# Altium footprint library Passives-SMD_LED.PCBLIB: 29 footprints (part 2 of 2)
Each footprint in its own frame and in the unit in brackets; x right, y up, seen from the top. Pads: shape width x height; smd on the part's side, far side on the other; paste and mask are expansions set on the pad; w line width, h text height; cw(c..) or ccw(c..) is an arc to the next point about the centre after c.
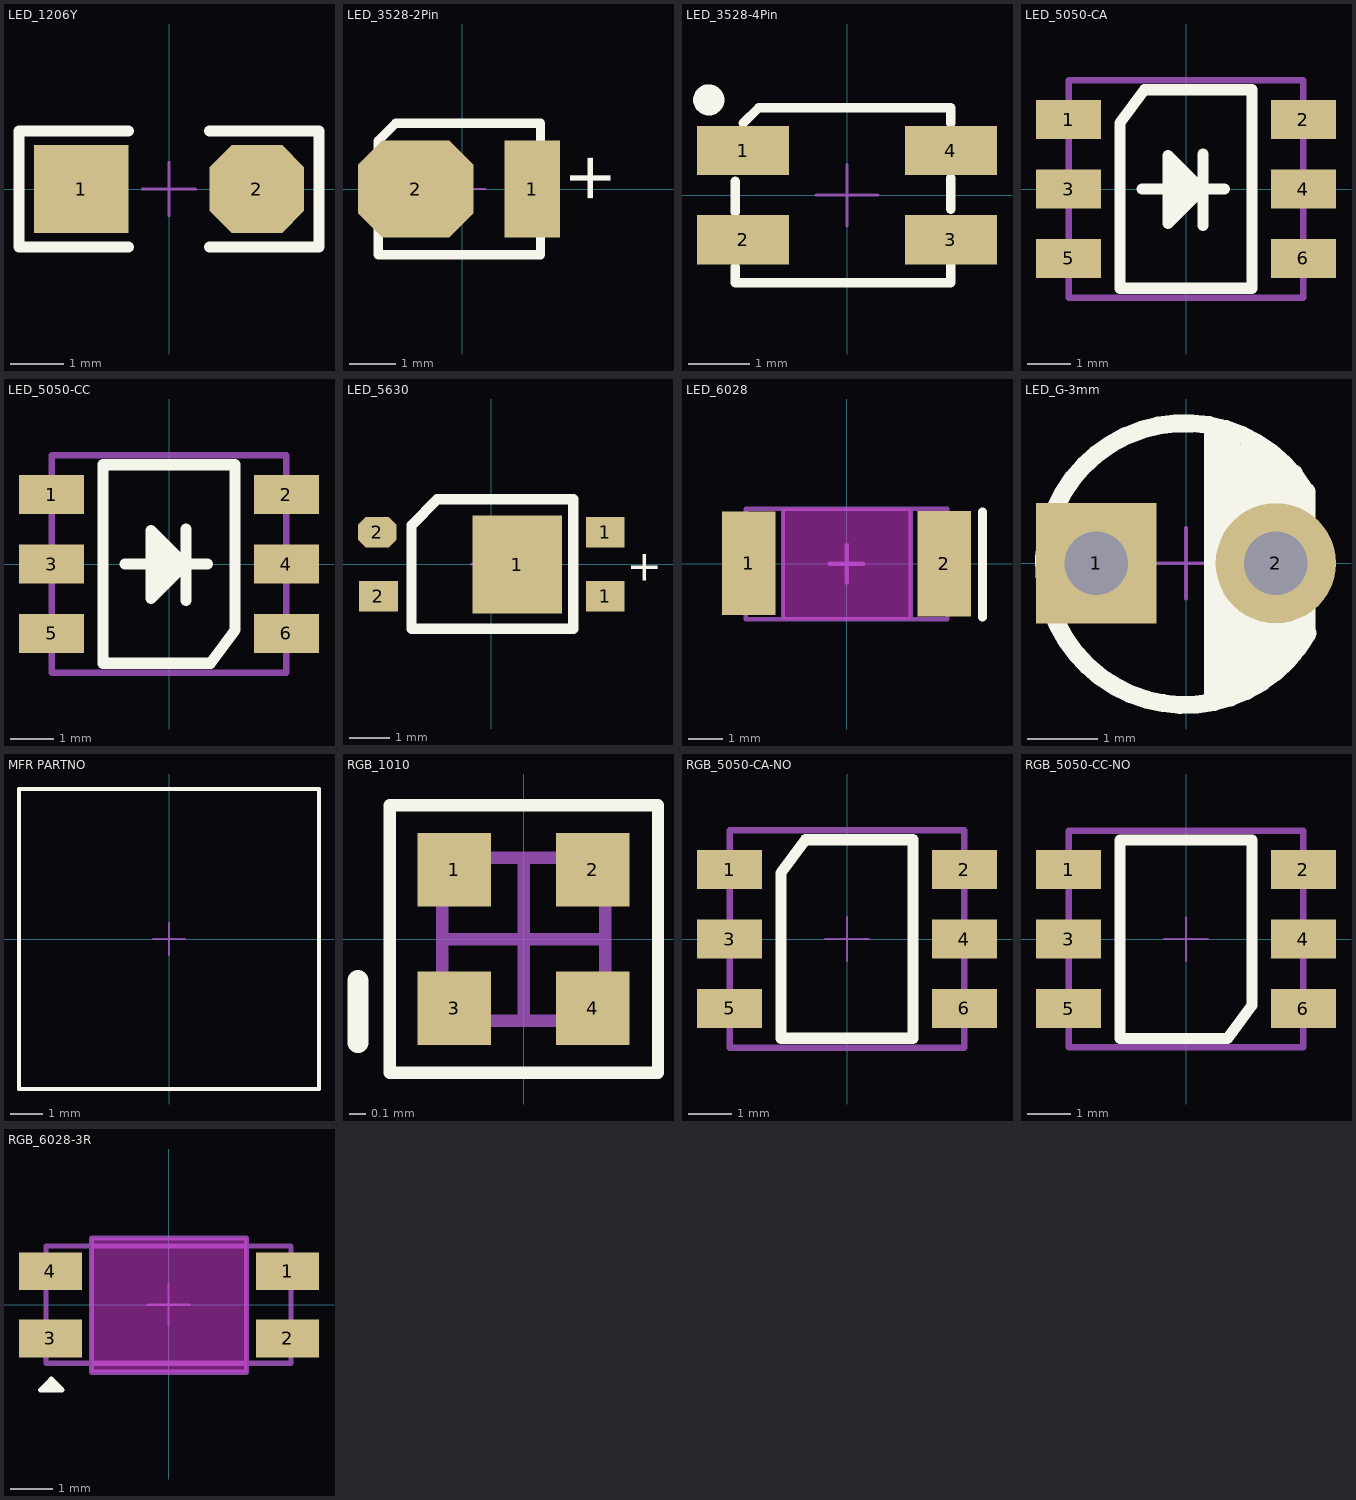
[diagram p1: the footprints below, top view; thin cyan lines are the x and y axes]

## LED_1206Y [mil]
pads (2):
  rect 70x65 smd: 1(-65,0)
  oct 70x65 smd: 2(65,0)
Top Overlay:
  lines w8: -30,-43 -111,-43 -111,43 -109,43 -30,43 ; 30,-43 109,-43 ; 30,43 111,43 111,-43
Top 中心点:
  lines w1.97: -19.68,0 19.68,0 ; 0,-19.68 0,19.68
3D body "LED 1206玻璃罩.ST": height 0, standoff 0, extent 0,0 0,0
3D body "LED 1206-Y.STEP": height 35.58, standoff -0.16, extent -63.03,-31.54 63.03,31.54

## LED_3528-2Pin [mm]
pads (2):
  rect 1.2x2.1 smd: 1(1.511,0)
  oct 2.5x2.1 smd: 2(-1.003,0)
Top Overlay:
  lines w0.2: -1.816,-1.422 1.689,-1.422 1.689,1.422 -1.435,1.422 -1.816,1.041 -1.816,-1.422
  text "+" at 3.213,-0.356 h1.02
Top 中心点:
  lines w0.05: -0.5,0 0.5,0 ; 0,-0.5 0,0.5
3D body "LED 3528 透明胶.STEP": height 1.95, standoff 1.2, extent -1.195,-1.195 1.195,1.195
3D body "LED 3528-2Pin 基体.STEP": height 1.95, standoff 0.05, extent -1.75,-1.4 1.75,1.4

## LED_3528-4Pin [mm]
pads (4):
  rect 1.5x0.8 smd: 1(-1.689,0.725) 2(-1.689,-0.725) 3(1.689,-0.725) 4(1.689,0.725)
Top Overlay:
  circle w0.254: c-2.248,1.549 r0.127
  lines w0.152: -1.816,-1.168 -1.816,-1.422 1.689,-1.422 1.689,-1.118 ; -1.816,-0.279 -1.816,0.229 ; -1.689,1.168 -1.435,1.422 1.689,1.422 1.689,1.168 ; 1.689,-0.229 1.689,0.279
Top 中心点:
  lines w0.05: -0.5,0 0.5,0 ; 0,-0.5 0,0.5
3D body "LED 3528 透明胶.ST": height 1.95, standoff 1.2, extent -1.195,-1.195 1.195,1.195
3D body "LED 3528-4Pin 基体.STEP": height 1.95, standoff 0.05, extent -1.75,-1.4 1.75,1.4

## LED_5050-CA [mm]
pads (6):
  rect 1.5x0.9 smd: 1(-2.705,1.6) 2(2.705,1.6) 3(-2.705,0) 4(2.705,0) 5(-2.705,-1.6) 6(2.705,-1.6)
Top Overlay:
  lines w0.254: -1.016,0 0.889,0 ; -0.254,0.559 -0.229,-0.432 0.254,0 0,0.254 0,0 0,-0.254 ; 0.356,-0.02 -0.417,-0.792 -0.417,0.775 0.396,-0.038 ; 0.396,-0.841 0.396,0.805 ; -1.524,-2.286 1.524,-2.286 1.524,2.286 -0.953,2.286 -1.524,1.524 -1.524,-2.286
Top 元件外形:
  lines w0.15: -2.705,-2.5 2.705,-2.5 2.705,2.5 -2.7,2.5 -2.705,2.495 -2.705,-2.5
Top 中心点:
  lines w0.05: -0.5,0 0.5,0 ; 0,-0.5 0,0.5
3D body "LED 5050 透明胶.ST": height 1.65, standoff 0.67, extent -1.995,-1.995 1.995,1.995
3D body "LED 5050 基体.STEP": height 1.65, standoff 0.05, extent -2.7,-2.5 2.7,2.5

## LED_5050-CC [mm]
pads (6):
  rect 1.5x0.9 smd: 1(-2.705,1.6) 2(2.705,1.6) 3(-2.705,0) 4(2.705,0) 5(-2.705,-1.6) 6(2.705,-1.6)
Top Overlay:
  lines w0.254: -1.016,0 0.889,0 ; -0.254,0.559 -0.229,-0.432 0.254,0 0,0.254 0,0 0,-0.254 ; 0.356,-0.02 -0.417,-0.792 -0.417,0.775 0.396,-0.038 ; 0.396,-0.841 0.396,0.805 ; -1.524,-2.286 0.953,-2.286 1.524,-1.524 1.524,2.286 -1.524,2.286 -1.524,-2.286
Top 元件外形:
  lines w0.15: -2.705,-2.5 -2.705,2.5 2.705,2.5 2.705,-2.5 -2.705,-2.5
Top 中心点:
  lines w0.05: -0.5,0 0.5,0 ; 0,-0.5 0,0.5
3D body "LED 5050 透明胶.ST": height 1.65, standoff 0.67, extent -1.995,-1.995 1.995,1.995
3D body "LED 5050 基体.STEP": height 1.65, standoff 0.05, extent -2.7,-2.5 2.7,2.5

## LED_5630 [mm]
pads (5):
  rect 2.2x2.4 smd: 1(0.635,-0.006)
  rect 0.95x0.75 smd: 1(2.794,-0.781) 1(2.794,0.781) 2(-2.769,-0.781)
  oct 0.95x0.75 smd: 2(-2.794,0.781)
Top Overlay:
  lines w0.254: -1.956,-1.581 -1.956,0.959 -1.321,1.594 2.007,1.594 2.007,-1.581 -1.956,-1.581
  text "+" at 3.327,-0.4 h0.76
Top 中心点:
  lines w0.05: -0.5,0 0.5,0 ; 0,-0.5 0,0.5
3D body "LED 5630 透明胶.STEP": height 0.95, standoff 0.6, extent -2.395,-1.395 2.395,1.395
3D body "LED 5630 基体.STEP": height 0.95, standoff 0.05, extent -2.9,-1.5 2.9,1.5

## LED_6028 [mm]
pads (2):
  rect 1.55x3 smd: 1(-2.827,0.006)
  rect 1.55x3.05 smd: 2(2.827,-0.006)
Top Overlay:
  lines w0.254: 3.934,-1.549 3.934,1.499
Keep-Out Layer:
  board cut-out: -1.84,-1.611 -1.84,1.589 1.86,1.589 1.86,-1.611
M1:
  lines w0.127: -1.84,-1.611 -1.84,1.589 1.86,1.589 1.86,-1.611 -1.84,-1.611
Top 元件外形:
  lines w0.127: -2.921,-1.611 2.921,-1.611 2.921,1.589 -2.921,1.589 -2.921,-1.611
Top 中心点:
  lines w0.127: -0.485,0 0.485,0 ; 0,-0.537 0,0.537
3D body "User Library-6028 LED.step": height 0.85, standoff -0.85, extent -2.94,-1.4 2.94,1.4

## LED_G-3mm [mm]
pads (2):
  rect 1.7x1.7 hole 0.9: 1(-1.27,0)
  round 1.7 hole 0.9: 2(1.27,0)
Top Overlay:
  lines w0.254: 0.381,-1.905 0.381,1.905 ; 0.635,-1.778 0.635,1.778 ; 1.016,-1.651 1.016,1.524 ; 1.524,1.27 1.524,-1.27 1.27,-1.524 1.27,1.397 1.143,1.524 1.016,1.524 ; 1.685,1.025 ccw(c-0.016,-0.012) 1.72,-0.987 ; 1.702,-0.965 1.702,1.016 ; 0.889,1.651 1.016,1.524 ; 0.889,1.651 0.889,-1.778 0.889,1.651
Top 中心点:
  lines w0.05: -0.5,0 0.5,0 ; 0,-0.5 0,0.5
3D body "LED 3mm-G.STEP": height 3.01, standoff -3.45, extent -1.623,-0.838 1.618,0.838
3D body "LED 3mm-玻璃罩.STEP": height 5.55, standoff 0.05, extent -1.95,-1.95 1.638,1.95

## MFR PARTNO [mm] "记得设置高度"
Top Overlay:
  lines w0.127: -4.7,-4.7 4.7,-4.7 4.7,4.7 -4.7,4.7 -4.7,-4.7
Top 元件外形:
  lines w0.127: -4.7,-4.7 -4.7,4.7 4.7,4.7 4.7,-4.7 -4.7,-4.7
Top 中心点:
  lines w0.051: -0.5,0 0.5,0 ; 0,-0.5 0,0.5

## RGB_1010 [mm]
pads (4):
  rect 0.45x0.45 smd: 1(-0.425,0.425) 2(0.425,0.425) 3(-0.425,-0.425) 4(0.425,-0.425)
Top Overlay:
  lines w0.076: -0.82,-0.82 -0.82,0.822 0.825,0.822 0.825,-0.82 -0.82,-0.82
  lines w0.127: -1.016,-0.635 -1.016,-0.254
Top 元件外形:
  lines w0.076: -0.5,-0.5 -0.5,0.5 0.5,0.5 0.5,-0.5 -0.5,-0.5
  text "B" at 1.016,-0.635 h0.51
  text "+" at -1.27,-0.687 h0.51
  text "G" at 1.016,0.259 h0.51
  text "R" at -1.27,0.254 h0.51
Top 中心点:
  lines w0.076: -0.5,0 0.5,0 ; 0,-0.5 0,0.5
3D body: height 0.4, standoff 0, extent -0.5,-0.5 0.5,0.5

## RGB_5050-CA-NO [mm]
pads (6):
  rect 1.5x0.9 smd: 1(-2.705,1.6) 2(2.705,1.6) 3(-2.705,0) 4(2.705,0) 5(-2.705,-1.6) 6(2.705,-1.6)
Top Overlay:
  lines w0.254: -1.524,-2.286 -1.524,1.524 -0.953,2.286 1.524,2.286 1.524,-2.286 -1.524,-2.286
Top 元件外形:
  lines w0.15: -2.705,-2.5 -2.705,2.5 2.705,2.5 2.705,-2.5 -2.705,-2.5
  text "G" at 0.735,-1.83 h0.6
  text "R" at 0.735,-0.23 h0.6
  text "B" at 0.735,1.37 h0.6
Top 中心点:
  lines w0.05: -0.5,0 0.5,0 ; 0,-0.5 0,0.5
3D body "LED 5050 基体.STEP": height 1.65, standoff 0.05, extent -2.7,-2.5 2.7,2.5
3D body "LED 5050 透明胶.ST": height 1.65, standoff 0.67, extent -1.995,-1.995 1.995,1.995

## RGB_5050-CC-NO [mm]
pads (6):
  rect 1.5x0.9 smd: 1(-2.705,1.6) 2(2.705,1.6) 3(-2.705,0) 4(2.705,0) 5(-2.705,-1.6) 6(2.705,-1.6)
Top Overlay:
  lines w0.254: -1.524,-2.286 0.953,-2.286 1.524,-1.524 1.524,2.286 -1.524,2.286 -1.524,-2.286
Top 元件外形:
  lines w0.15: -2.705,-2.495 2.705,-2.495 2.705,2.5 -2.705,2.5 -2.705,-2.495
  text "B" at -1.17,1.243 h0.6
  text "R" at -1.17,-0.357 h0.6
  text "G" at -1.17,-1.957 h0.6
Top 中心点:
  lines w0.05: -0.5,0 0.5,0 ; 0,-0.5 0,0.5
3D body "LED 5050 透明胶.ST": height 1.65, standoff 0.67, extent -1.995,-1.995 1.995,1.995
3D body "LED 5050 基体.STEP": height 1.65, standoff 0.05, extent -2.7,-2.5 2.7,2.5

## RGB_6028-3R [mm]
pads (4):
  rect 1.5x0.9 smd: 1(2.837,0.795) 2(2.837,-0.805) 3(-2.817,-0.805) 4(-2.817,0.795)
Top Overlay:
  lines w0.127: -2.794,-2.032 -2.667,-1.905 ; -2.794,-2.032 -2.667,-1.905 ; -2.794,-2.032 -2.921,-1.905 -2.667,-1.905 ; -3.048,-2.032 -2.54,-2.032 -2.794,-1.778 -3.048,-2.032
Keep-Out Layer:
  board cut-out: -1.84,-1.611 -1.84,1.589 1.86,1.589 1.86,-1.611
M1:
  lines w0.127: -1.84,-1.611 -1.84,1.589 1.86,1.589 1.86,-1.611 -1.84,-1.611
Top 元件外形:
  lines w0.127: -2.921,-1.4 2.921,-1.4 2.921,1.4 -2.921,1.4 -2.921,-1.4
  text "+" at 0.833,-1.043 h0.6
  text "B" at 0.862,0.481 h0.6
  text "G" at -1.297,0.481 h0.6
  text "R" at -1.297,-1.043 h0.6
Top 中心点:
  lines w0.05: -0.5,0 0.5,0 ; 0,-0.5 0,0.5
3D body "6028SMDRGB.STEP": height 1.25, standoff -0.8, extent -2.9,-1.4 2.9,1.4